# Altium footprint library 2_pin_Header_Pcb.PcbLib: 1 footprints
Each footprint in its own frame and in the unit in brackets; x right, y up, seen from the top. Pads: shape width x height; smd on the part's side, far side on the other; paste and mask are expansions set on the pad; w line width, h text height; cw(c..) or ccw(c..) is an arc to the next point about the centre after c.
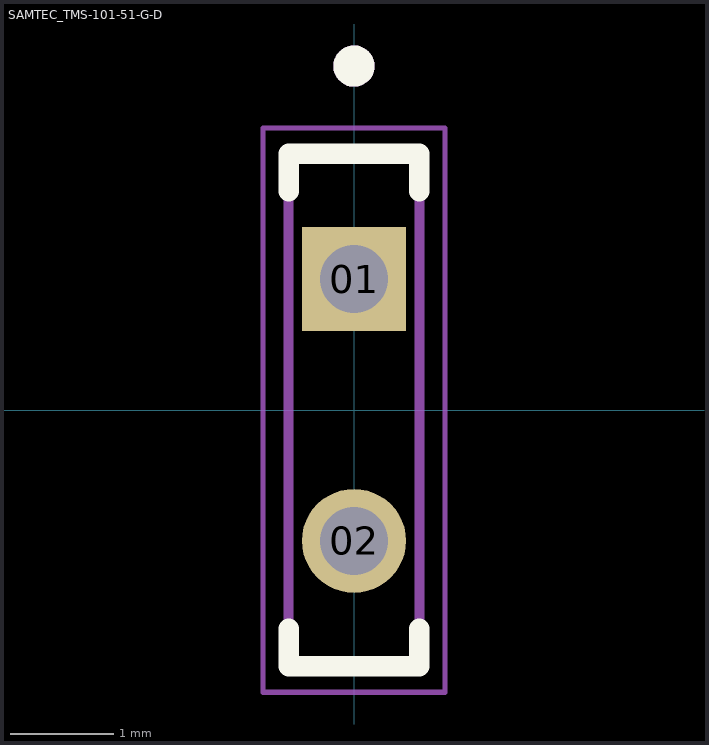
[diagram p0: the footprint, top view; thin cyan lines are the x and y axes]

## SAMTEC_TMS-101-51-G-D [mm]
pads (2):
  rect 1.01x1.01 / inner round 1.01 / far side rect 1.01x1.01 hole 0.66: 01(0,1.27)
  round 1.01 hole 0.66: 02(0,-1.27)
Top Overlay:
  circle w0.2: c0,3.339 r0.1
  lines w0.2: -0.635,-2.125 -0.635,-2.489 0.635,-2.489 0.635,-2.125 ; -0.635,2.125 -0.635,2.489 0.635,2.489 0.635,2.125
Mechanical 13:
  circle w0.2: c0,3.339 r0.1
  lines w0.1: -0.635,-2.489 0.635,-2.489 0.635,2.489 -0.635,2.489 -0.635,-2.489
Mechanical 15:
  lines w0.05: -0.885,-2.739 -0.885,2.739 0.885,2.739 0.885,-2.739 -0.885,-2.739